# EAGLE library part 90LV048 (library Fugu_LSI)
LVDS Quad CMOS Differential Line Receiver
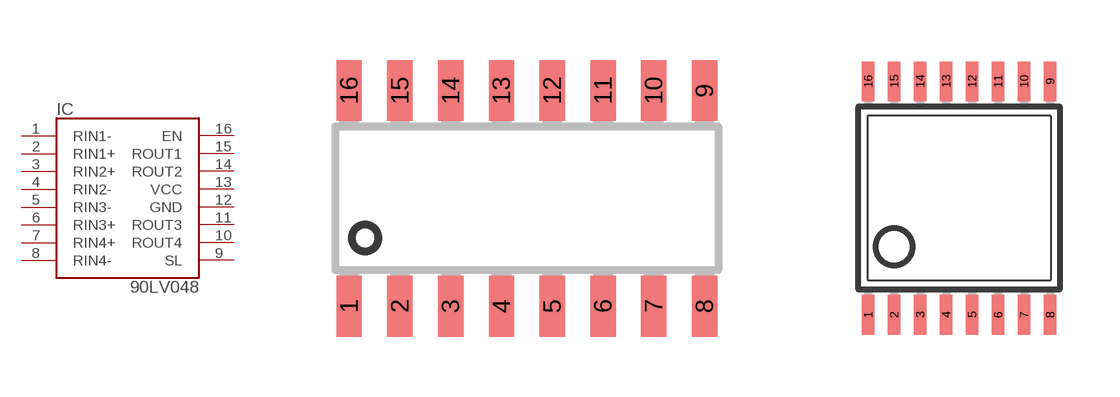
[diagram p24: symbol with the pads of SOIC16; footprints SOIC16, TSSOP16]

Designator prefix IC

## 90LV048D  [SOIC16]
1  RIN1-
2  RIN1+
3  RIN2+
4  RIN2-
5  RIN3-
6  RIN3+
7  RIN4+
8  RIN4-
9  SL
10  ROUT4
11  ROUT3
12  GND
13  VCC
14  ROUT2
15  ROUT1
16  EN

## 90LV048PW  [TSSOP16]
Pads as for SOIC16

## Footprint SOIC16 (pad centres in mm)
SMALL OUTLINE INTEGRATED CIRCUIT 16-Pin (150-Mil) SOIC Source: http://www.cypress.com .. 38-12025_0P_V.pdf
smd 0.635 x 1.524: 1 -4.445,-2.695; 2 -3.175,-2.695; 3 -1.905,-2.695; 4 -0.635,-2.695; 5 0.635,-2.695; 6 1.905,-2.695; 7 3.175,-2.695; 8 4.445,-2.695; 9 4.445,2.695; 10 3.175,2.695; 11 1.905,2.695; 12 0.635,2.695; 13 -0.635,2.695; 14 -1.905,2.695; 15 -3.175,2.695; 16 -4.445,2.695

## Footprint TSSOP16 (pad centres in mm)
Thin Shrink Small Outline Plastic 16 MAX3223-MAX3243.pdf
smd 0.305 x 0.991: 1 -2.275,-2.918; 2 -1.625,-2.918; 3 -0.975,-2.918; 4 -0.325,-2.918; 5 0.325,-2.918; 6 0.975,-2.918; 7 1.625,-2.918; 8 2.275,-2.918; 9 2.275,2.918; 10 1.625,2.918; 11 0.975,2.918; 12 0.325,2.918; 13 -0.325,2.918; 14 -0.975,2.918; 15 -1.625,2.918; 16 -2.275,2.918